# Altium footprint library MLACHT_Z.PCBLIB: 150 footprints (part 3 of 10)
Each footprint in its own frame and in the unit in brackets; x right, y up, seen from the top. Pads: shape width x height; smd on the part's side, far side on the other; paste and mask are expansions set on the pad; w line width, h text height; cw(c..) or ccw(c..) is an arc to the next point about the centre after c.
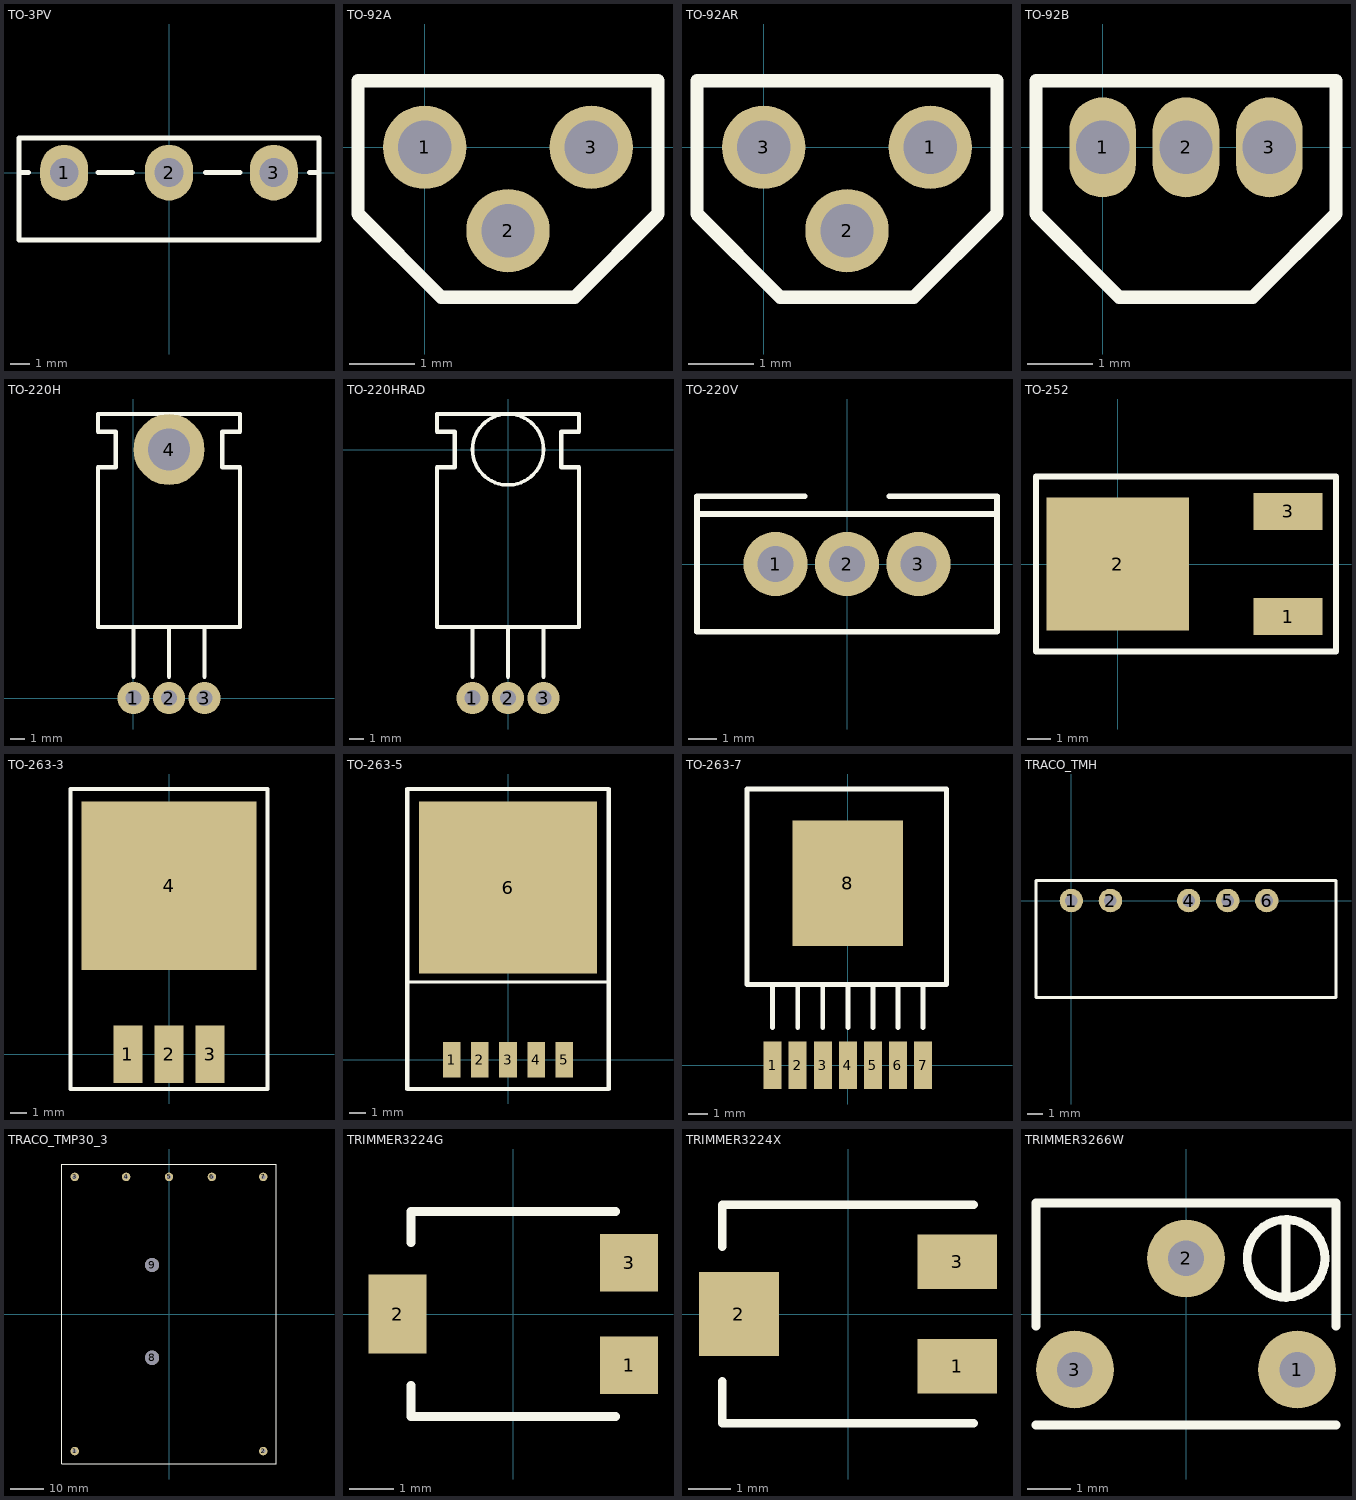
[diagram p2: the footprints below, top view; thin cyan lines are the x and y axes]

## TO-3PV [mm]
pads (3):
  oval 2.5x2.9 hole 1.5: 1(-5.45,0) 2(0,0) 3(5.45,0)
TopOverlay:
  lines w0.25: -7.8,0 -7.3,0 ; -3.7,0 -1.9,0 ; 1.9,0 3.7,0 ; 7.3,0 7.8,0 ; -7.8,-3.5 7.8,-3.5 7.8,1.8 -7.8,1.8 -7.8,-3.5
3D body: height 7, standoff 3.5, extent 4.45,-0.3 6.45,0.3
3D body: height 9, standoff -2, extent 4.95,-0.3 5.95,0.3
3D body: height 7, standoff 3.5, extent -6.45,-0.3 -4.45,0.3
3D body: height 9, standoff -2, extent -5.95,-0.3 -4.95,0.3
3D body: height 9, standoff -2, extent -0.5,-0.3 0.5,0.3
3D body: height 25, standoff 10, extent -4.8,-3.5 4.8,0
3D body: height 27, standoff 7, extent -7.8,0 7.8,1.8
3D body: height 7, standoff 3.5, extent -1,-0.3 1,0.3
3D body: height 20.9, standoff 7, extent -7.8,-3.5 7.8,0

## TO-92A [mil]
pads (3):
  round 50 hole 32: 1(0,0) 2(50,-50) 3(100,0)
TopOverlay:
  lines w8: -40,-40 -40,40 140,40 140,-40 90,-90 10,-90 -40,-40

## TO-92AR [mil]
pads (3):
  round 50 hole 32: 1(100,0) 2(50,-50) 3(0,0)
TopOverlay:
  lines w8: -40,-40 -40,40 140,40 140,-40 90,-90 10,-90 -40,-40

## TO-92B [mil]
pads (3):
  oval 40x60 hole 32: 1(0,0) 2(50,0) 3(100,0)
TopOverlay:
  lines w8: -40,-40 10,-90 90,-90 140,-40 140,40 -40,40 -40,-40

## TO-220H [mil]
pads (4):
  round 90 hole 45: 1(0,0) 2(100,0) 3(200,0)
  round 200 hole 118: 4(100,700)
TopOverlay:
  lines w12: 0,60 0,200 ; 100,60 100,200 ; 200,60 200,200 ; -100,200 300,200 300,650 250,650 250,750 300,750 300,800 -100,800 -100,750 -50,750 -50,650 -100,650 -100,200
3D body: height 208.66, standoff -118.11, extent 183.27,-6.69 215.75,7.09
3D body: height 208.66, standoff -118.11, extent -16.73,-6.69 15.75,7.09
3D body: height 208.66, standoff -118.11, extent 83.27,-6.69 115.75,7.09
3D body: height 208.66, standoff 192.91, extent 185.24,0 214.76,196.85
3D body: height 208.66, standoff 192.91, extent -14.76,0 14.76,196.85
3D body: height 208.66, standoff 192.91, extent 84.25,0 115.75,196.85
3D body: height 133.86, standoff 78.74, extent -96.85,487.4 298.82,800.39
3D body: height 283.46, standoff 78.74, extent -100.79,200 298.82,507.09

## TO-220HRAD [mil]
pads (3):
  round 90 hole 45 mask+10: 1(-100,-700) 2(0,-700) 3(100,-700)
TopOverlay:
  circle w10: c0,0 r100
  lines w12: -100,-640 -100,-500 ; 0,-640 0,-500 ; 100,-640 100,-500 ; -200,-500 200,-500 200,-50 150,-50 150,50 200,50 200,100 -200,100 -200,50 -150,50 -150,-50 -200,-50 -200,-500
3D body: height 283.46, standoff 78.74, extent -200.79,-500 198.82,-192.91
3D body: height 133.86, standoff 78.74, extent -196.85,-212.6 198.82,100.39
3D body: height 208.66, standoff 192.91, extent -15.75,-700 15.75,-503.15
3D body: height 208.66, standoff 192.91, extent -114.76,-700 -85.24,-503.15
3D body: height 208.66, standoff 192.91, extent 85.24,-700 114.76,-503.15
3D body: height 208.66, standoff -118.11, extent -16.73,-706.69 15.75,-692.91
3D body: height 208.66, standoff -118.11, extent -116.73,-706.69 -84.25,-692.91
3D body: height 208.66, standoff -118.11, extent 83.27,-706.69 115.75,-692.91

## TO-220V [mil]
pads (3):
  round 90 hole 50 mask+10: 1(-100,0) 2(0,0) 3(100,0)
TopOverlay:
  lines w8: -210,70 210,70 ; -59.06,95 -210,95 -210,-95 210,-95 210,95 59.06,95
3D body: height 118.11, standoff 0, extent -120.61,-18 -81.39,21.29
3D body: height 118.11, standoff 0, extent 79.79,-18.65 119,20.65
3D body: height 118.11, standoff 0, extent -19.21,-19.65 20,19.65
3D body: height 629.92, standoff 118.11, extent -210,70 210,95
3D body: height 354.33, standoff 118.11, extent -210,-95 210,70

## TO-252 [mil]
pads (3):
  rect 118x63 smd: 1(292,-90) 3(292,90)
  rect 244x228 smd: 2(0,0)
TopOverlay:
  lines w10: -140,-150 -140,150 374.02,150 374.02,-150 -140,-150
3D body: height 94.49, standoff 0, extent -50.52,-129.37 193.57,130.47
3D body: height 23.62, standoff 0, extent -89.89,-107.72 -50.52,104.88
3D body: height 47.24, standoff 0, extent 193.57,-107.72 303.81,-72.28
3D body: height 47.24, standoff 0, extent 193.57,72.28 303.81,107.72

## TO-263-3 [mil]
pads (4):
  rect 70x140 smd: 1(-100,0) 2(0,0) 3(100,0)
  rect 425x410 smd: 4(0,410)
TopOverlay:
  lines w10: -240,-85 -240,645 240,645 240,-85 -240,-85

## TO-263-5 [mil]
pads (6):
  rect 42x85 smd: 1(-133.86,0) 2(-66.93,0) 3(0,0) 4(66.93,0) 5(133.86,0)
  rect 425x410 smd: 6(0,410)
TopOverlay:
  lines w8: -240,185 240,185
  lines w10: -240,-70 240,-70 240,645 -240,645 -240,-70
3D body: height 183.07, standoff 0, extent -204.72,206.69 204.72,515.75
3D body: height 51.97, standoff 0, extent -204.72,338.58 204.72,562.99
3D body: height 145.67, standoff 92.52, extent -19.68,88.58 19.68,206.69
3D body: height 122.44, standoff 0, extent -19.68,88.58 19.68,110.24
3D body: height 29.92, standoff 0, extent -19.68,0 19.68,88.58
3D body: height 29.92, standoff 0, extent -86.61,0 -47.24,88.58
3D body: height 122.44, standoff 0, extent -86.61,88.58 -47.24,110.24
3D body: height 145.67, standoff 92.52, extent -86.61,88.58 -47.24,206.69
3D body: height 29.92, standoff 0, extent -153.54,0 -114.17,88.58
3D body: height 122.44, standoff 0, extent -153.54,88.58 -114.17,110.24
3D body: height 145.67, standoff 92.52, extent -153.54,88.58 -114.17,206.69
3D body: height 29.92, standoff 0, extent 47.24,0 86.61,88.58
3D body: height 122.44, standoff 0, extent 47.24,88.58 86.61,110.24
3D body: height 145.67, standoff 92.52, extent 47.24,88.58 86.61,206.69
3D body: height 29.92, standoff 0, extent 114.17,0 153.54,88.58
3D body: height 122.44, standoff 0, extent 114.17,88.58 153.54,110.24
3D body: height 145.67, standoff 92.52, extent 114.17,88.58 153.54,206.69

## TO-263-7 [mm]
pads (8):
  rect 0.91x2.41 smd: 1(-3.81,0) 2(-2.54,0) 3(-1.27,0) 4(0,0) 5(1.27,0) 6(2.54,0) 7(3.81,0)
  rect 5.59x6.35 smd: 8(0,9.225)
TopOverlay:
  lines w0.25: -3.81,1.9 -3.81,4.1 ; -2.54,1.9 -2.54,4.1 ; -1.27,1.9 -1.27,4.1 ; 0,1.9 0,4.1 ; 1.27,1.9 1.27,4.1 ; 2.54,1.9 2.54,4.1 ; 3.81,1.9 3.81,4.1 ; -5.1,4.1 5,4.1 5,14 -5.1,14 -5.1,4.1
3D body: height 0.44, standoff 0, extent 3.46,0 4.16,2.4
3D body: height 1.44, standoff 1, extent 3.46,2 4.16,6.25
3D body: height 1.44, standoff 0, extent 3.46,2 4.16,2.4
3D body: height 0.44, standoff 0, extent 2.19,0 2.89,2.4
3D body: height 1.44, standoff 1, extent 2.19,2 2.89,6.25
3D body: height 1.44, standoff 0, extent 2.19,2 2.89,2.4
3D body: height 0.44, standoff 0, extent 0.92,0 1.62,2.4
3D body: height 1.44, standoff 1, extent 0.92,2 1.62,6.25
3D body: height 1.44, standoff 0, extent 0.92,2 1.62,2.4
3D body: height 0.44, standoff 0, extent -4.16,0 -3.46,2.4
3D body: height 1.44, standoff 1, extent -4.16,2 -3.46,6.25
3D body: height 1.44, standoff 0, extent -4.16,2 -3.46,2.4
3D body: height 0.44, standoff 0, extent -2.89,0 -2.19,2.4
3D body: height 1.44, standoff 1, extent -2.89,2 -2.19,6.25
3D body: height 1.44, standoff 0, extent -2.89,2 -2.19,2.4
3D body: height 0.44, standoff 0, extent -1.62,0 -0.92,2.4
3D body: height 1.44, standoff 1, extent -1.62,2 -0.92,6.25
3D body: height 1.44, standoff 0, extent -1.62,2 -0.92,2.4
3D body: height 2, standoff 0, extent -5.1,4.15 5.1,14.05
3D body: height 1.44, standoff 0, extent -0.35,2 0.35,2.4
3D body: height 1.44, standoff 1, extent -0.35,2 0.35,6.25
3D body: height 0.44, standoff 0, extent -0.35,0 0.35,2.4

## TRACO_TMH [mil]
pads (5):
  round 60 hole 32: 1(0,0) 2(100,0) 4(300,0) 5(400,0) 6(500,0)
TopOverlay:
  lines w8: -90.55,-248.03 677.17,-248.03 677.17,51.18 -90.55,51.18 -90.55,-248.03

## TRACO_TMP30_3 [mm]
pads (9):
  round 2.5 hole 1.2: 1(-27.94,-40.64) 2(27.94,-40.64) 3(-27.94,40.64) 4(-12.7,40.64) 5(0,40.64) 6(12.7,40.64) 7(27.94,40.64)
  round 4.2 hole 4.2: 8(-5,-12.99) 9(-4.99,14.51)
TopOverlay:
  lines w0.2: -31.75,-44.45 -31.75,44.45 31.75,44.45 31.75,-44.45 -31.75,-44.45
3D body: height 21.5, standoff 0, extent -31.75,-44.45 31.75,44.45

## TRIMMER3224G [mm]
pads (3):
  rect 1.3x1.3 smd: 1(2.6,-1.15) 3(2.6,1.15)
  rect 1.3x1.778 smd: 2(-2.6,0)
TopOverlay:
  lines w0.2: -2.3,-1.6 -2.3,-2.3 2.3,-2.3 ; -2.3,1.6 -2.3,2.3 2.3,2.3
3D body: height 3.44, standoff 1.95, extent -2.5,-2.249 -1,-0.751
3D body: height 3.9, standoff 0, extent -2.3,-2.3 2.3,2.3

## TRIMMER3224X [mm]
pads (3):
  rect 1.9x1.3 smd: 1(2.6,-1.25) 3(2.6,1.25)
  rect 1.9x2 smd: 2(-2.6,0)
TopOverlay:
  lines w0.2: -3,-1.6 -3,-2.6 3,-2.6 ; -3,1.6 -3,2.6 3,2.6
3D body: height 5.29, standoff 0, extent -2.842,-2.4 2.842,2.426

## TRIMMER3266W [mil]
pads (3):
  round 70 hole 32: 1(100,-50) 2(0,50) 3(-100,-50)
TopOverlay:
  circle w8: c90,50 r35
  lines w8: -135,-100 135,-100 ; -135,-10.63 -135,100 135,100 135,-10.63 ; 90,15 90,85
3D body: height 285.04, standoff 0, extent -135,-100 135,100
3D body: height 0, standoff -118.11, extent 86.22,-63.78 113.78,-36.22
3D body: height 0, standoff -118.11, extent -113.78,-63.78 -86.22,-36.22
3D body: height 0, standoff -118.11, extent -13.78,36.22 13.78,63.78
3D body: height 325.2, standoff 285.04, extent 55.79,14.96 125.59,84.9